# Altium schematic symbol library 9.Commutation.SchLib: 35 symbols
Pins are listed as number, name and electrical type; pins without a type are passive.

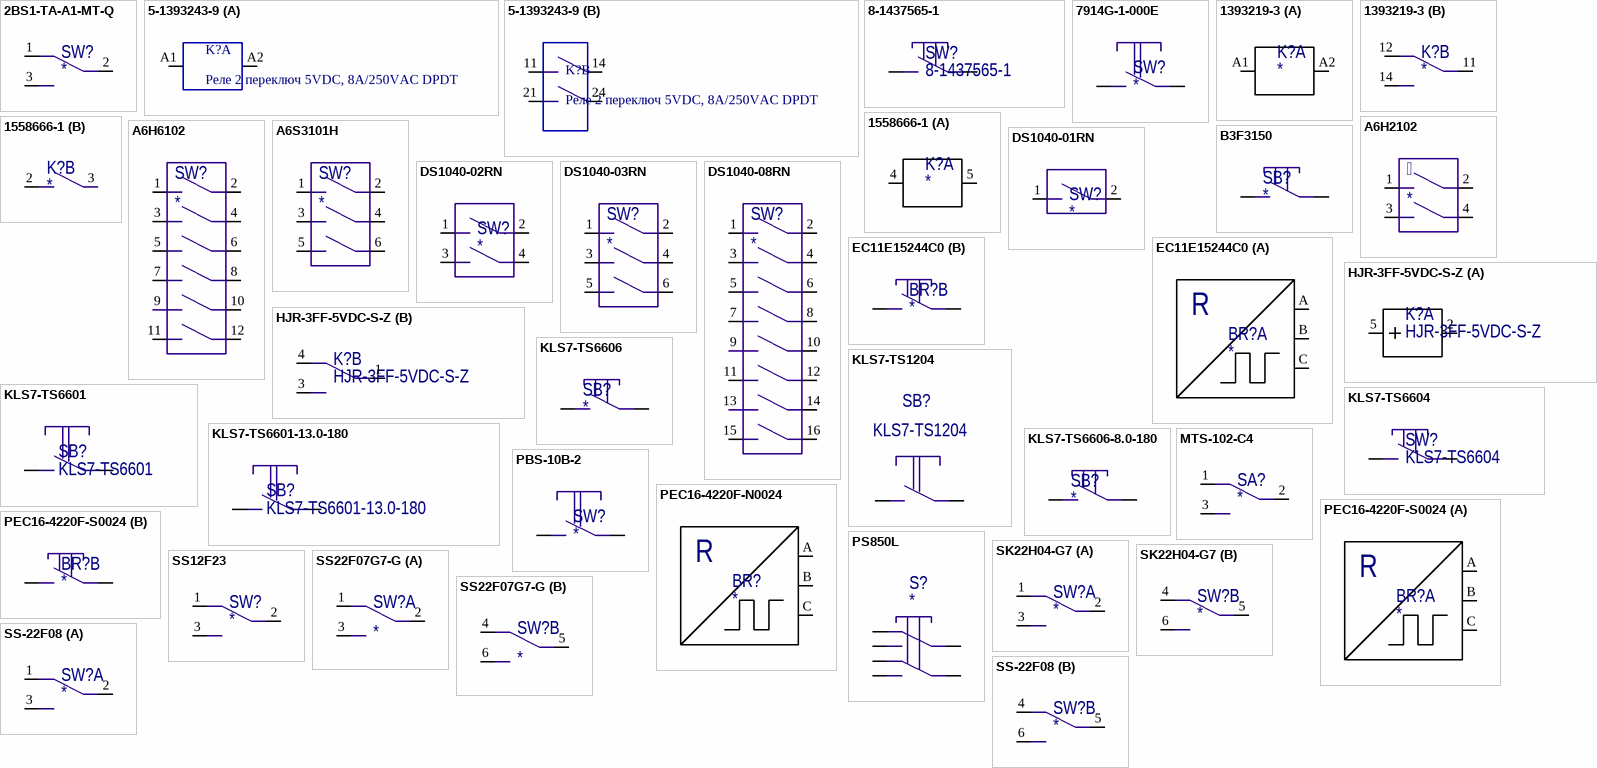
[diagram p0: symbols 2BS1-TA-A1-MT-Q to SS-22F08]

## 2BS1-TA-A1-MT-Q
designator SW?
footprint 2BS1-TA-A1-MT-Q
pins: 1, 2, 3

## 5-1393243-9
designator K?, comment Реле 2 переключ 5VDC, 8А/250VAC DPDT
5-1393243-9 (RT424005)
footprint rt42
part A pins: A1 1, A2 2
part B pins: 11, 14, 21, 24

## 8-1437565-1
designator SW?
footprint 8-1437565-1
pins: 1, 2

## 7914G-1-000E
designator SW?
Тактовый переключатель SMD
footprint 7914G
pins: 1, 2

## 1393219-3
designator K?
Реле 5VDC
footprint 1393219-3
part A pins: A1 1, A2 2
part B pins: 11, 12, 14

## 1558666-1
designator K?
Реле 5VDC 1зам. 30A/250VAC
footprint T9G-1
part A pins: 4, 5
part B pins: 2, 3

## A6H2102
designator 
DIP переключатель
footprint A6H2102 (Footprint not found)
pins: 1, 2, 3, 4

## A6H6102
designator SW?
DIP переключатель
footprint A6H6102
pins: 1, 2, 3, 4, 5, 6, 7, 8, 9, 10, 11, 12

## A6S3101H
designator SW?
DIP переключатель
footprint A6S3101H
pins: 1, 2, 3, 4, 5, 6

## B3F3150
designator SB?
footprint B3F3150
pins: 1, 2

## DS1040-01RN
designator SW?
DIP переключатель
footprint DIP_SW_1
pins: 1, 2

## DS1040-02RN
designator SW?
DIP переключатель
footprint DIP_SW_2
pins: 1, 2, 3, 4

## DS1040-03RN
designator SW?
DIP переключатель
footprint DIP_SW_3
pins: 1, 2, 3, 4, 5, 6

## DS1040-08RN
designator SW?
DIP переключатель
footprint DIP_SW_8
pins: 1, 2, 3, 4, 5, 6, 7, 8, 9, 10, 11, 12, 13, 14, 15, 16

## EC11E15244C0
designator BR?
footprint EC11
footprint EC11_a
part A pins: A, B, C
part B pins: D, E
part A text: R

## HJR-3FF-5VDC-S-Z
designator K?
Реле электромеханическое
footprint HJR-3FF
part A pins: 2, 5
part B pins: 1, 3, 4

## KLS7-TS1204
designator SB?
footprint KLS7-TS1204
pins: 1, 2

## KLS7-TS6601
designator SB?
footprint KLS7-TS6601
pins: 1, 2

## KLS7-TS6601-13.0-180
designator SB?
footprint KLS7-TS6601-13.0-180
pins: 1, 2

## KLS7-TS6604
designator SW?
footprint KLS7-TS6604-5.0-180-B
pins: 1, 2

## KLS7-TS6606
designator SB?
footprint KLS7-TS6606
pins: 1, 2

## KLS7-TS6606-8.0-180
designator SB?
footprint KLS7-TS6606-8.0-180
pins: 1, 2

## MTS-102-C4
designator SA?
footprint MTS-102-C4 (Footprint not found)
pins: 1, 2, 3

## PBS-10B-2
designator SW?
Кнопка без фиксации
footprint PBS-10B-2
pins: 1, 2

## PEC16-4220F-N0024
designator BR?
footprint PEC16-4220F
pins: A, B, C
text: R

## PEC16-4220F-S0024
designator BR?
footprint PEC16-4220F
part A pins: A, B, C
part B pins: D, E
part A text: R

## PS850L
designator S?
footprint PS850L
pins: 1, 2, 3, 4, 5, 6

## SK22H04-G7
designator SW?
footprint SK22H04-G7 (Footprint not found)
part A pins: 1, 2, 3
part B pins: 4, 5, 6

## SS12F23
designator SW?
footprint SS12F23
pins: 1, 2, 3

## SS22F07G7-G
designator SW?
Переключатель сдвиговый 50В 0.3А
footprint SS22F07G7-G
part A pins: 1, 2, 3
part B pins: 4, 5, 6

## SS-22F08
designator SW?
footprint SS-22F08
part A pins: 1, 2, 3
part B pins: 4, 5, 6

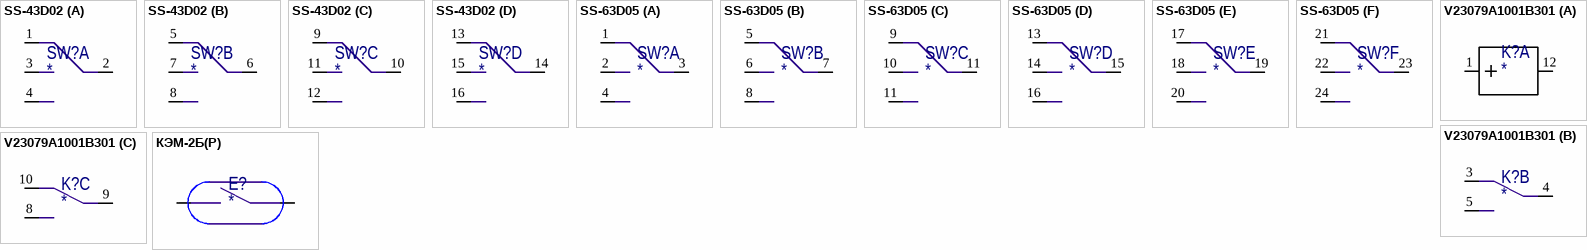
[diagram p1: symbols SS-43D02 to КЭМ-2Б(Р)]

## SS-43D02
designator SW?
footprint SS43D02
part A pins: 1, 2, 3, 4
part B pins: 5, 6, 7, 8
part C pins: 9, 10, 11, 12
part D pins: 13, 14, 15, 16

## SS-63D05
designator SW?
footprint SS-63D05
part A pins: 1, 2, 3, 4
part B pins: 5, 6, 7, 8
part C pins: 9, 10 3, 11, 11 3
part D pins: 13, 14, 15, 16
part E pins: 17, 18, 19, 20
part F pins: 21, 22, 23, 24

## V23079A1001B301
designator K?
5V Relay
footprint V23079A1001B301
part A pins: 1, 12
part B pins: 3, 4, 5
part C pins: 8, 9, 10

## КЭМ-2Б(Р)
designator E?
footprint КЭМ-2
pins: 1, 2